# EAGLE library part TPS61230 (library CougsInSpace)
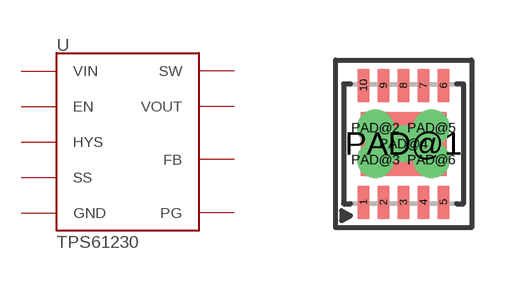
[diagram p0: symbol with the pads of DRC-10; footprint DRC-10]

Designator prefix U

## TPS61230  [DRC-10]
1  SW  pwr
2  SW  pwr
3  VOUT  pwr
4  VOUT  pwr
5  PG  out
6  SS  in
7  FB  in
8  HYS  out
9  EN  in
10  VIN  in
PAD@1  GND  pwr
PAD@2  GND  pwr
PAD@3  GND  pwr
PAD@4  GND  pwr
PAD@5  GND  pwr
PAD@6  GND  pwr

## Footprint DRC-10 (pad centres in mm)
smd 0.28 x 0.825: 1 -1,-1.462; 2 -0.5,-1.462; 3 0,-1.462; 4 0.5,-1.462; 5 1,-1.462; 6 1,1.462; 7 0.5,1.462; 8 0,1.462; 9 -0.5,1.462; 10 -1,1.462
smd 2.15 x 1.6: PAD@1 0,0
drill 0.4 pad 0.61: PAD@2 -0.7,0.4; PAD@3 -0.7,-0.4; PAD@4 0,0; PAD@5 0.7,0.4; PAD@6 0.7,-0.4